# EAGLE library part MAX31629 (library cTechnologies_integratedCircuits)
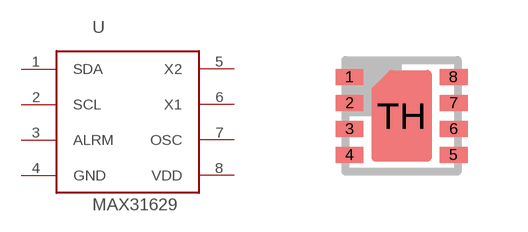
[diagram p24: symbol with the pads of TDFN8-3X3MM; footprint TDFN8-3X3MM]

Designator prefix -

## MAX31629MTA  [TDFN8-3X3MM]
1  SDA
2  SCL
3  ALRM
4  GND
5  X2
6  X1
7  OSC
8  VDD

## Footprint TDFN8-3X3MM (pad centres in mm)
TDFN 8 pol. 3x3 mm Source: Data sheet <http://datasheets.maxim-ic.com/en/ds/MAX8559.pdf>
smd 0.7 x 0.4: 1 -1.3,0.975; 2 -1.3,0.325; 3 -1.3,-0.325; 4 -1.3,-0.975; 5 1.3,-0.975; 6 1.3,-0.325; 7 1.3,0.325; 8 1.3,0.975
smd 1 x 1: TH 0,0